# EAGLE library part SH5-3 (library con-rib)
RIBBON CABLE CONNECTOR
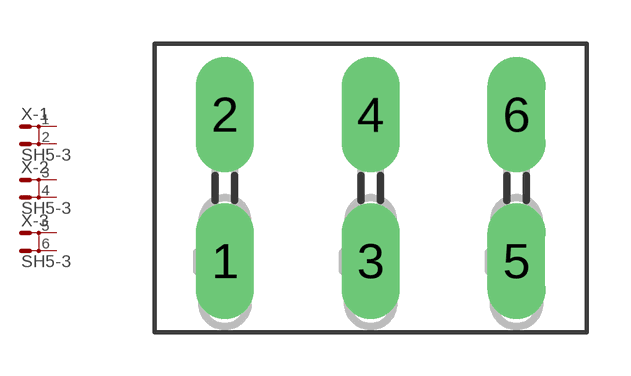
[diagram p0: symbol with the pads of SH5-3; footprint SH5-3]

Designator prefix X; gates -1=MD -2=MD -3=MD

## SH5-3  [SH5-3]
1  -1:1  pas
2  -1:2  pas
3  -2:1  pas
4  -2:2  pas
5  -3:1  pas
6  -3:2  pas

## Footprint SH5-3 (pad centres in mm)
RIBBON CABLE CONNECTOR
drill 1.321 long: 1 -5.004,-2.515; 2 -5.004,2.515; 3 0,-2.515; 4 0,2.515; 5 5.004,-2.515; 6 5.004,2.515